# Altium footprint library SchematicLibrary.PcbLib: 4 footprints
Each footprint in its own frame and in the unit in brackets; x right, y up, seen from the top. Pads: shape width x height; smd on the part's side, far side on the other; paste and mask are expansions set on the pad; w line width, h text height; cw(c..) or ccw(c..) is an arc to the next point about the centre after c.
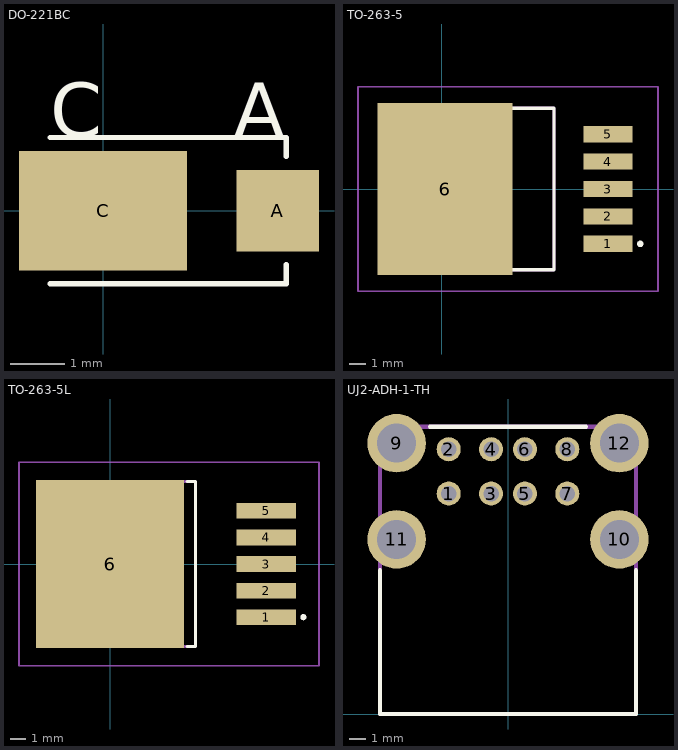
[diagram p0: the footprints below, top view; thin cyan lines are the x and y axes]

## DO-221BC [mm]
pads (2):
  rect 1.52x1.5 smd: A(3.22,0)
  rect 3.1x2.2 smd: C(0,0)
Top Overlay:
  lines w0.1: -0.975,-1.35 3.375,-1.35 3.375,-1 ; -0.975,1.35 3.375,1.35 3.375,1
  text "C" at -0.975,1.35 h1
  text "A" at 2.409,1.35 h1

## TO-263-5 [mm]
pads (6):
  rect 3.05x1.016 smd: 1(10.3,-3.404) 2(10.3,-1.702) 3(10.3,0) 4(10.3,1.702) 5(10.3,3.404)
  rect 8.38x10.66 smd: 6(0.2,0)
Top Overlay:
  lines w0.2: 4.35,-5.01 6.947,-5.01 6.947,5.01 4.35,5.01 ; 12.3,-3.5 ccw(c12.3,-3.4) 12.3,-3.3 ccw(c12.3,-3.4) 12.3,-3.5
Mechanical 13:
  lines w0.2: -2.4,-5.01 6.947,-5.01 6.947,5.01 -2.4,5.01 -2.4,-5.01
Mechanical 15:
  lines w0.1: -5.195,-6.33 13.4,-6.33 13.4,6.33 -5.195,6.33 -5.195,-6.33
3D body "D²PAK TO-263-5.STEP": height 4.87, standoff 0, extent -3.99,-5.08 10.24,5.08

## TO-263-5L [mm]
pads (6):
  rect 3.8x1 smd: 1(10,-3.4) 2(10,-1.7) 3(10,0) 4(10,1.7) 5(10,3.4)
  rect 9.45x10.75 smd: 6(0,0)
Top Overlay:
  lines w0.2: 4.925,-5.275 5.475,-5.275 5.475,5.275 4.925,5.275 ; 12.375,-3.5 cw(c12.375,-3.4) 12.375,-3.3 cw(c12.375,-3.4) 12.375,-3.5
Mechanical 13:
  lines w0.2: -4.175,-5.275 5.475,-5.275 5.475,5.275 -4.175,5.275 -4.175,-5.275
Mechanical 15:
  lines w0.1: -5.825,-6.5 13.375,-6.5 13.375,6.5 -5.825,6.5 -5.825,-6.5
3D body "TO263-5.STEP": height 4.78, standoff -0.02, extent -4.71,-5 10.96,5

## UJ2-ADH-1-TH [mm]
pads (12):
  round 1.42 hole 0.92: 1(-3.5,13.01) 2(-3.5,15.625) 3(-1,13.01) 4(-1,15.625) 5(1,13.01) 6(1,15.625) 7(3.5,13.01) 8(3.5,15.625)
  round 3.45 hole 2.3: 9(-6.57,15.98) 10(6.57,10.3) 11(-6.57,10.3) 12(6.57,15.98)
Top Overlay:
  lines w0.254: -7.55,8.475 -7.55,0 7.55,0 7.55,8.475 ; -4.6,16.95 4.6,16.95
Mechanical 13:
  lines w0.254: -7.55,0 7.55,0 7.55,16.95 -7.55,16.95 -7.55,0
3D body "UJ2-ADH-1-TH.stp": height 16.17, standoff -3.25, extent -8.024,0.032 8.024,17.125